# EAGLE library part 90130-1126 (library SamacSys_Parts)
Headers & Wire Housings 2.54MM CGRIDIII HDR 26P V DR SHRD TIN Source: Datasheet <https://www.molex.com/pdm_docs/sd/901301126_sd.pdf>
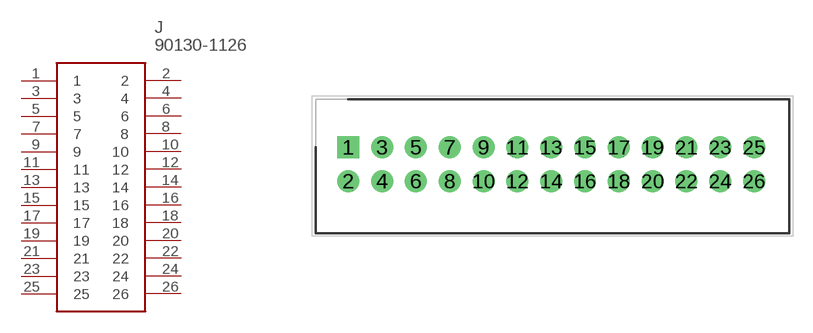
[diagram p66: symbol with the pads of SHDR26W65P254_2X13_3536X975X11; footprint SHDR26W65P254_2X13_3536X975X11]

Designator prefix J

## 90130-1126 (DESCRIPTION: Headers & Wire Housings 2.54MM CGRIDIII HDR 26P V DR SHRD TIN; HEIGHT: 11.1mm; MANUFACTURER_NAME: Molex; MANUFACTURER_PART_NUMBER: 90130-1126; MOUSER_PART_NUMBER: 538-90130-1126; MOUSER_PRICE-STOCK: https://www.mouser.co.uk/ProductDetail/Molex/90130-1126?qs=kEwmkoUtv7SjJObO1Sl4qQ%3D%3D)  [SHDR26W65P254_2X13_3536X975X11]
1  1
2  2
3  3
4  4
5  5
6  6
7  7
8  8
9  9
10  10
11  11
12  12
13  13
14  14
15  15
16  16
17  17
18  18
19  19
20  20
21  21
22  22
23  23
24  24
25  25
26  26

## Footprint SHDR26W65P254_2X13_3536X975X11 (pad centres in mm)
90130-1226
drill 1.1 pad 1.65 square: 1 0,0
drill 1.1 pad 1.65: 2 0,-2.54; 3 2.54,0; 4 2.54,-2.54; 5 5.08,0; 6 5.08,-2.54; 7 7.62,0; 8 7.62,-2.54; 9 10.16,0; 10 10.16,-2.54; 11 12.7,0; 12 12.7,-2.54; 13 15.24,0; 14 15.24,-2.54; 15 17.78,0; 16 17.78,-2.54; 17 20.32,0; 18 20.32,-2.54; 19 22.86,0; 20 22.86,-2.54; 21 25.4,0; 22 25.4,-2.54; 23 27.94,0; 24 27.94,-2.54; 25 30.48,0; 26 30.48,-2.54